# EAGLE library part TB6552 (library DigitalIC)
Digikey Part Number: TB6552FNG(OEL)CT-ND Manufacturer Part Number: TB6552FNG(O,EL)
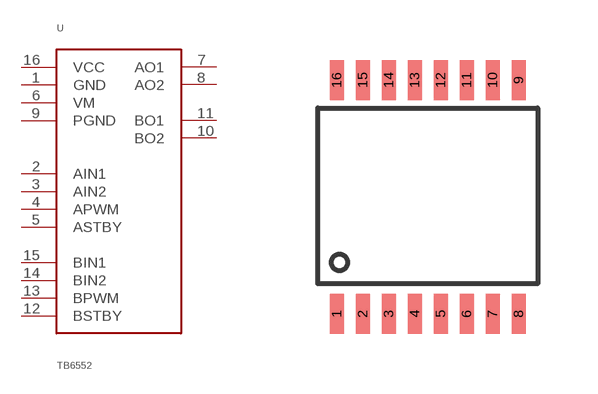
[diagram p1: symbol with the pads of 16SSOP; footprint 16SSOP]

Designator prefix U

## TB6552FN/FNG  [16SSOP]
1  GND
2  AIN1
3  AIN2
4  APWM
5  ASTBY
6  VM
7  AO1
8  AO2
9  PGND
10  BO2
11  BO1
12  BSTBY
13  BPWM
14  BIN2
15  BIN1
16  VCC

## Footprint 16SSOP (pad centres in mm)
smd 0.35 x 1: 1 -2.275,-2.95; 2 -1.625,-2.95; 3 -0.975,-2.95; 4 -0.325,-2.95; 5 0.325,-2.95; 6 0.975,-2.95; 7 1.625,-2.95; 8 2.275,-2.95; 9 2.275,2.9; 10 1.625,2.9; 11 0.975,2.9; 12 0.325,2.9; 13 -0.325,2.9; 14 -0.975,2.9; 15 -1.625,2.9; 16 -2.275,2.9